# EAGLE library part 692622420101 (library Wurth_Connectors_WR-USB)
WR-COM Micro USB 3.0 Type B Vertical SMT Kind Properties Durability:10 000 Mating cycles Connector Type:Micro USB Gender:Receptacle Type:Vertical General Information Operating Temperature:-30up to +85 °C Compliance:RoHS Electrical Properties IR 1:1.8A Working Voltage:30V (AC) Withstanding Voltage:100V (AC) Contact Resistance:30 mΩ Material Properties Insulator Material:LCP Insulator Flammability Rating:UL94 V-0 Color:Black Cover Material:Stainless Steel Cover Plating:Nickel Contact Material:Brass Contact Plating:Gold over Nickel Contact Type:Stamped <https://www.we-online.com/catalog/media/o58974v209%20Family_WR-COM_692622420101.jpg> Details see: https://www.we-online.com/catalog/en/COM_MICRO_3_0_SMT_TYPE_B_VERTICAL/ Updated by Yingchun, Shan 2020-01-17 2020 (C) Würth Elektronik
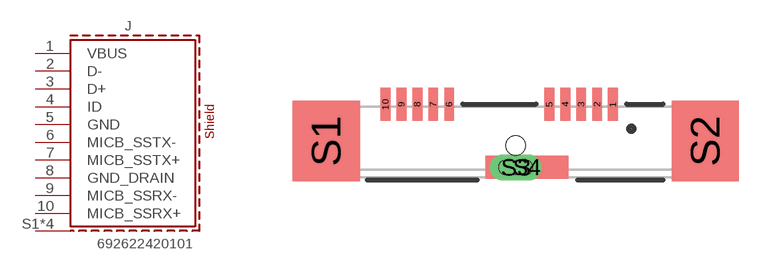
[diagram p3: symbol with the pads of 692622420101; footprint 692622420101]

Designator prefix J

## 692622420101 (APPLICATION: Micro USB 3.0; DATASHEET-URL: https://www.we-online.com/catalog/datasheet/692622420101.pdf; GERDER: Receptacle; INTERFACE-TYPE: Type B; MOUNT: SMT; PACKAGING: Tape and Reel with Cap; PART-NUMBER: 692622420101; PINS: 10; TYPE: Vertical; WORKING-VOLTAGE: 30V(AC))  [692622420101]
1  VBUS
2  D-
3  D+
4  ID
5  GND
6  MICB_SSTX-
7  MICB_SSTX+
8  GND_DRAIN
9  MICB_SSRX-
10  MICB_SSRX+
S1  SHIELD
S2  SHIELD
S3  SHIELD
S4  SHIELD

## Footprint 692622420101 (pad centres in mm)
WR-COM Micro USB 3.0 Type B Vertical SMT
smd 0.4 x 1.35: 1 4.65,1.39; 2 4,1.39; 3 3.35,1.39; 4 2.7,1.39; 5 2.05,1.39; 6 -2.05,1.39; 7 -2.7,1.39; 8 -3.35,1.39; 9 -4,1.39; 10 -4.65,1.39
smd 2.75 x 3.3: S1 -7.08,-0.11; S2 8.42,-0.11
drill 0.55 pad 0.95 long: S3 0.67,-1.19
smd 3.4 x 0.95: S4 1.13,-1.19
hole 0.8 at 0.67,-0.3